# Altium schematic symbol library ANTENNA-2-PIN.SchLib: 1 symbol
Pins are listed as number, name and electrical type; pins without a type are passive.

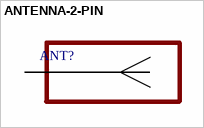
[diagram p0: symbol ANTENNA-2-PIN]

## ANTENNA-2-PIN
designator ANT?
pins: 1, 2